# EAGLE library part 1-406541-1 (library 1-406541-1)
ModJack,RightAngle,8Position,Cat5 TE Connectivity Female Cat5 RJ45 Connector, Right Angle, Through Hole Mount, <https://componentsearchengine.com/Images/1/1-406541-1.jpg> Source: Datasheet <http://uk.rs-online.com/web/p/products/7820823>
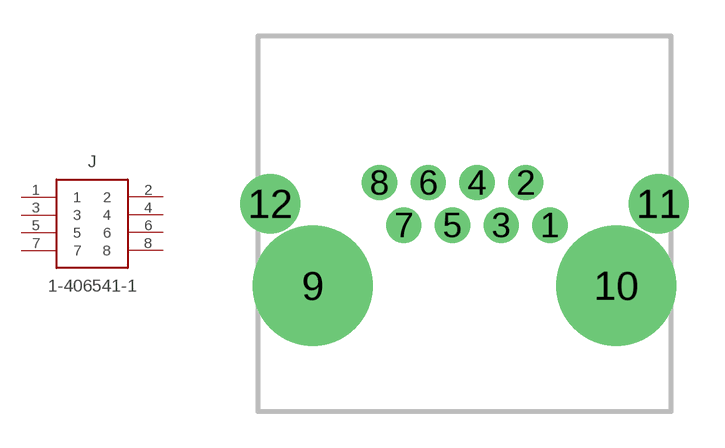
[diagram p0: symbol with the pads of 1-406541-1_1; footprint 1-406541-1_1]

Designator prefix J

## 1-406541-1 (Allied_Number: 70042871; Description: ModJack,RightAngle,8Position,Cat5 TE Connectivity Female Cat5 RJ45 Connector, Right Angle, Through Hole Mount,; Height: mm; Manufacturer_Name: TE Connectivity; Manufacturer_Part_Number: 1-406541-1; RS_Part_Number: 2508293174; Supplier_Name: RS)  [1-406541-1_1]
1  1  pas
2  2  pas
3  3  pas
4  4  pas
5  5  pas
6  6  pas
7  7  pas
8  8  pas

## Footprint 1-406541-1_1 (pad centres in mm)
1-406541-1_1
drill 0.97 pad 1.47: 1 12.215,7.82; 2 11.195,9.6; 3 10.175,7.82; 4 9.155,9.6; 5 8.135,7.82; 6 7.115,9.6; 7 6.095,7.82; 8 5.075,9.6
drill 3.33 pad 5.03: 9 2.285,5.28; 10 14.985,5.28
drill 1.65 pad 2.5: 11 16.765,8.71; 12 0.505,8.71